# Altium footprint library Connector_Phoenix_MC_HighVoltage.PcbLib: 66 footprints (part 2 of 5)
Each footprint in its own frame and in the unit in brackets; x right, y up, seen from the top. Pads: shape width x height; smd on the part's side, far side on the other; paste and mask are expansions set on the pad; w line width, h text height; cw(c..) or ccw(c..) is an arc to the next point about the centre after c.
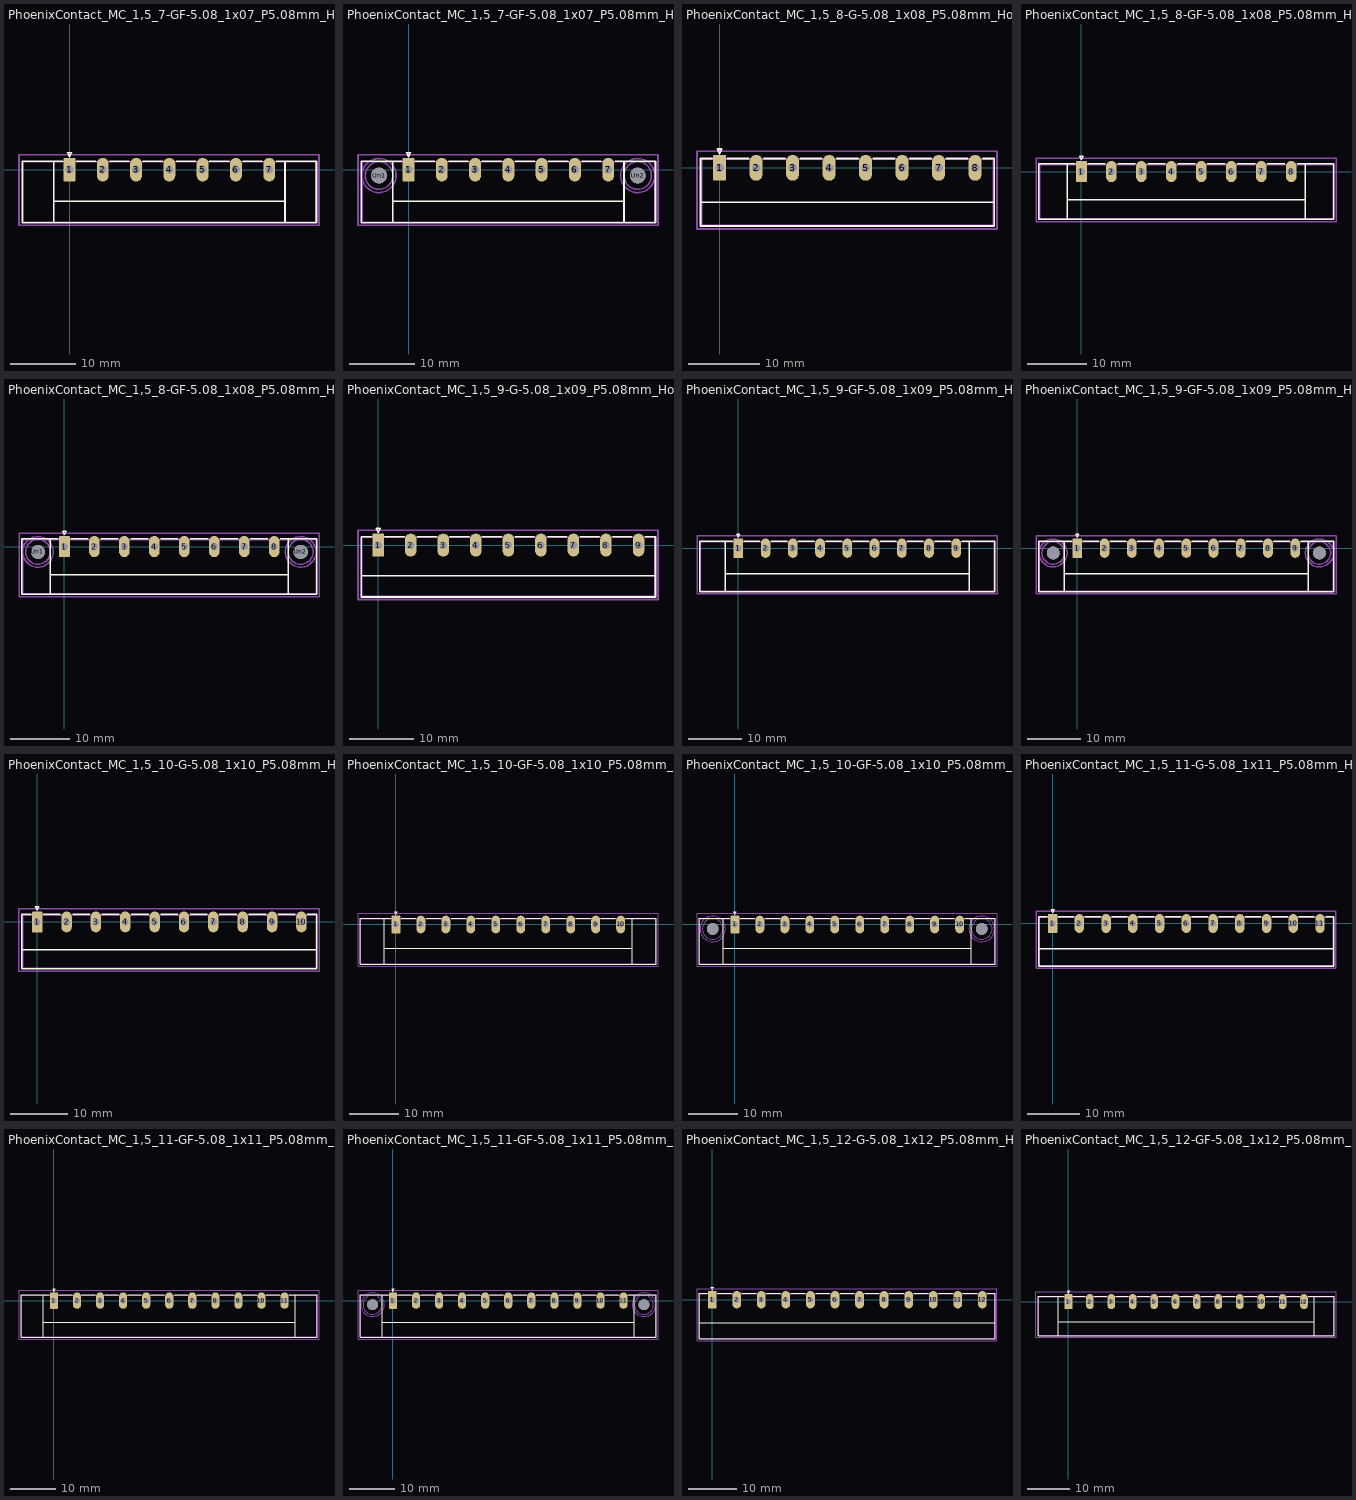
[diagram p1: the footprints below, top view; thin cyan lines are the x and y axes]

## PhoenixContact_MC_1,5_7-GF-5.08_1x07_P5.08mm_Horizontal_ThreadedFlange [mm]
pads (7):
  rrect14% 1.8x3.6 hole 1.2: 1(0,0)
  rrect100% 1.8x3.6 hole 1.2: 2(5.08,0) 3(10.16,0) 4(15.24,0) 5(20.32,0) 6(25.4,0) 7(30.48,0)
F.SilkS:
  lines w0.254: -2.41,-8.11 -2.41,1.31 ; -2.41,-4.8 32.89,-4.8 ; -1.05,1.31 -7.21,1.31 -7.21,-8.11 37.69,-8.11 37.69,1.31 31.53,1.31 ; 1.05,1.31 4.03,1.31 ; 6.13,1.31 9.11,1.31 ; 11.21,1.31 14.19,1.31 ; 16.29,1.31 19.27,1.31 ; 21.37,1.31 24.35,1.31 ; 26.45,1.31 29.43,1.31 ; 32.89,-8.11 32.89,1.31 ; -0.3,2.6 0,2 0.3,2.6 -0.3,2.6
Top Assembly:
  lines w0.254: -0.8,1.2 0,0 0.8,1.2 ; -7.1,-8 37.58,-8 37.58,1.2 -7.1,1.2 -7.1,-8
  text "'.Designator'" at 11.193,-0.34 h1
Top Courtyard:
  lines w0.254: -7.71,-8.5 38.08,-8.5 38.08,2.3 -7.71,2.3 -7.71,-8.5
Top Designator:
  text ".Designator" at 7.567,-3.458 h1.52

## PhoenixContact_MC_1,5_7-GF-5.08_1x07_P5.08mm_Horizontal_ThreadedFlange_MountHole [mm]
pads (9):
  rrect14% 1.8x3.6 hole 1.2: 1(0,0)
  rrect100% 1.8x3.6 hole 1.2: 2(5.08,0) 3(10.16,0) 4(15.24,0) 5(20.32,0) 6(25.4,0) 7(30.48,0)
  round 2.4 hole 2.4: Un1(-4.5,-0.9) Un2(34.98,-0.9)
F.SilkS:
  lines w0.254: -2.41,-8.11 -2.41,1.31 ; -2.41,-4.8 32.89,-4.8 ; -1.05,1.31 -7.21,1.31 -7.21,-8.11 37.69,-8.11 37.69,1.31 31.53,1.31 ; 1.05,1.31 4.03,1.31 ; 6.13,1.31 9.11,1.31 ; 11.21,1.31 14.19,1.31 ; 16.29,1.31 19.27,1.31 ; 21.37,1.31 24.35,1.31 ; 26.45,1.31 29.43,1.31 ; 32.89,-8.11 32.89,1.31 ; -0.3,2.6 0,2 0.3,2.6 -0.3,2.6
B.SilkS:
  circle w0.254: c34.98,-0.9 r2.21
  circle w0.254: c-4.5,-0.9 r2.21
Top Assembly:
  lines w0.254: -0.8,1.2 0,0 0.8,1.2 ; -7.1,-8 37.58,-8 37.58,1.2 -7.1,1.2 -7.1,-8
  text "'.Designator'" at 11.193,-0.34 h1
Bottom Assembly:
  circle w0.254: c34.98,-0.9 r2.1
  circle w0.254: c-4.5,-0.9 r2.1
Top Courtyard:
  lines w0.254: -7.71,-8.5 38.08,-8.5 38.08,2.3 -7.71,2.3 -7.71,-8.5
Bottom Courtyard:
  circle w0.254: c34.98,-0.9 r2.6
  circle w0.254: c-4.5,-0.9 r2.6
Top Designator:
  text ".Designator" at 7.567,-3.458 h1.52

## PhoenixContact_MC_1,5_8-G-5.08_1x08_P5.08mm_Horizontal [mm]
pads (8):
  rrect14% 1.8x3.6 hole 1.2: 1(0,0)
  rrect100% 1.8x3.6 hole 1.2: 2(5.08,0) 3(10.16,0) 4(15.24,0) 5(20.32,0) 6(25.4,0) 7(30.48,0) 8(35.56,0)
F.SilkS:
  lines w0.254: -2.65,-4.8 38.21,-4.8 ; -1.05,1.31 -2.65,1.31 -2.65,-8.11 38.21,-8.11 38.21,1.31 36.61,1.31 ; 1.05,1.31 4.03,1.31 ; 6.13,1.31 9.11,1.31 ; 11.21,1.31 14.19,1.31 ; 16.29,1.31 19.27,1.31 ; 21.37,1.31 24.35,1.31 ; 26.45,1.31 29.43,1.31 ; 31.53,1.31 34.51,1.31 ; -0.3,2.6 0,2 0.3,2.6 -0.3,2.6
Top Assembly:
  lines w0.254: -0.8,1.2 0,0 0.8,1.2 ; -2.54,-8 38.1,-8 38.1,1.2 -2.54,1.2 -2.54,-8
  text "'.Designator'" at 13.733,-0.34 h1
Top Courtyard:
  lines w0.254: -3.15,-8.5 38.6,-8.5 38.6,2.3 -3.15,2.3 -3.15,-8.5
Top Designator:
  text ".Designator" at 10.107,-3.458 h1.52

## PhoenixContact_MC_1,5_8-GF-5.08_1x08_P5.08mm_Horizontal_ThreadedFlange [mm]
pads (8):
  rrect14% 1.8x3.6 hole 1.2: 1(0,0)
  rrect100% 1.8x3.6 hole 1.2: 2(5.08,0) 3(10.16,0) 4(15.24,0) 5(20.32,0) 6(25.4,0) 7(30.48,0) 8(35.56,0)
F.SilkS:
  lines w0.254: -2.41,-8.11 -2.41,1.31 ; -2.41,-4.8 37.97,-4.8 ; -1.05,1.31 -7.21,1.31 -7.21,-8.11 42.77,-8.11 42.77,1.31 36.61,1.31 ; 1.05,1.31 4.03,1.31 ; 6.13,1.31 9.11,1.31 ; 11.21,1.31 14.19,1.31 ; 16.29,1.31 19.27,1.31 ; 21.37,1.31 24.35,1.31 ; 26.45,1.31 29.43,1.31 ; 31.53,1.31 34.51,1.31 ; 37.97,-8.11 37.97,1.31 ; -0.3,2.6 0,2 0.3,2.6 -0.3,2.6
Top Assembly:
  lines w0.254: -0.8,1.2 0,0 0.8,1.2 ; -7.1,-8 42.66,-8 42.66,1.2 -7.1,1.2 -7.1,-8
  text "'.Designator'" at 13.733,-0.34 h1
Top Courtyard:
  lines w0.254: -7.71,-8.5 43.16,-8.5 43.16,2.3 -7.71,2.3 -7.71,-8.5
Top Designator:
  text ".Designator" at 10.107,-3.458 h1.52

## PhoenixContact_MC_1,5_8-GF-5.08_1x08_P5.08mm_Horizontal_ThreadedFlange_MountHole [mm]
pads (10):
  rrect14% 1.8x3.6 hole 1.2: 1(0,0)
  rrect100% 1.8x3.6 hole 1.2: 2(5.08,0) 3(10.16,0) 4(15.24,0) 5(20.32,0) 6(25.4,0) 7(30.48,0) 8(35.56,0)
  round 2.4 hole 2.4: Un1(-4.5,-0.9) Un2(40.06,-0.9)
F.SilkS:
  lines w0.254: -2.41,-8.11 -2.41,1.31 ; -2.41,-4.8 37.97,-4.8 ; -1.05,1.31 -7.21,1.31 -7.21,-8.11 42.77,-8.11 42.77,1.31 36.61,1.31 ; 1.05,1.31 4.03,1.31 ; 6.13,1.31 9.11,1.31 ; 11.21,1.31 14.19,1.31 ; 16.29,1.31 19.27,1.31 ; 21.37,1.31 24.35,1.31 ; 26.45,1.31 29.43,1.31 ; 31.53,1.31 34.51,1.31 ; 37.97,-8.11 37.97,1.31 ; -0.3,2.6 0,2 0.3,2.6 -0.3,2.6
B.SilkS:
  circle w0.254: c40.06,-0.9 r2.21
  circle w0.254: c-4.5,-0.9 r2.21
Top Assembly:
  lines w0.254: -0.8,1.2 0,0 0.8,1.2 ; -7.1,-8 42.66,-8 42.66,1.2 -7.1,1.2 -7.1,-8
  text "'.Designator'" at 13.733,-0.34 h1
Bottom Assembly:
  circle w0.254: c40.06,-0.9 r2.1
  circle w0.254: c-4.5,-0.9 r2.1
Top Courtyard:
  lines w0.254: -7.71,-8.5 43.16,-8.5 43.16,2.3 -7.71,2.3 -7.71,-8.5
Bottom Courtyard:
  circle w0.254: c40.06,-0.9 r2.6
  circle w0.254: c-4.5,-0.9 r2.6
Top Designator:
  text ".Designator" at 10.107,-3.458 h1.52

## PhoenixContact_MC_1,5_9-G-5.08_1x09_P5.08mm_Horizontal [mm]
pads (9):
  rrect14% 1.8x3.6 hole 1.2: 1(0,0)
  rrect100% 1.8x3.6 hole 1.2: 2(5.08,0) 3(10.16,0) 4(15.24,0) 5(20.32,0) 6(25.4,0) 7(30.48,0) 8(35.56,0) 9(40.64,0)
F.SilkS:
  lines w0.254: -2.65,-4.8 43.29,-4.8 ; -1.05,1.31 -2.65,1.31 -2.65,-8.11 43.29,-8.11 43.29,1.31 41.69,1.31 ; 1.05,1.31 4.03,1.31 ; 6.13,1.31 9.11,1.31 ; 11.21,1.31 14.19,1.31 ; 16.29,1.31 19.27,1.31 ; 21.37,1.31 24.35,1.31 ; 26.45,1.31 29.43,1.31 ; 31.53,1.31 34.51,1.31 ; 36.61,1.31 39.59,1.31 ; -0.3,2.6 0,2 0.3,2.6 -0.3,2.6
Top Assembly:
  lines w0.254: -0.8,1.2 0,0 0.8,1.2 ; -2.54,-8 43.18,-8 43.18,1.2 -2.54,1.2 -2.54,-8
  text "'.Designator'" at 16.273,-0.34 h1
Top Courtyard:
  lines w0.254: -3.15,-8.5 43.68,-8.5 43.68,2.3 -3.15,2.3 -3.15,-8.5
Top Designator:
  text ".Designator" at 12.647,-3.458 h1.52

## PhoenixContact_MC_1,5_9-GF-5.08_1x09_P5.08mm_Horizontal_ThreadedFlange [mm]
pads (9):
  rrect14% 1.8x3.6 hole 1.2: 1(0,0)
  rrect100% 1.8x3.6 hole 1.2: 2(5.08,0) 3(10.16,0) 4(15.24,0) 5(20.32,0) 6(25.4,0) 7(30.48,0) 8(35.56,0) 9(40.64,0)
F.SilkS:
  lines w0.254: -2.41,-8.11 -2.41,1.31 ; -2.41,-4.8 43.05,-4.8 ; -1.05,1.31 -7.21,1.31 -7.21,-8.11 47.85,-8.11 47.85,1.31 41.69,1.31 ; 1.05,1.31 4.03,1.31 ; 6.13,1.31 9.11,1.31 ; 11.21,1.31 14.19,1.31 ; 16.29,1.31 19.27,1.31 ; 21.37,1.31 24.35,1.31 ; 26.45,1.31 29.43,1.31 ; 31.53,1.31 34.51,1.31 ; 36.61,1.31 39.59,1.31 ; 43.05,-8.11 43.05,1.31 ; -0.3,2.6 0,2 0.3,2.6 -0.3,2.6
Top Assembly:
  lines w0.254: -0.8,1.2 0,0 0.8,1.2 ; -7.1,-8 47.74,-8 47.74,1.2 -7.1,1.2 -7.1,-8
  text "'.Designator'" at 16.273,-0.34 h1
Top Courtyard:
  lines w0.254: -7.71,-8.5 48.24,-8.5 48.24,2.3 -7.71,2.3 -7.71,-8.5
Top Designator:
  text ".Designator" at 12.647,-3.458 h1.52

## PhoenixContact_MC_1,5_9-GF-5.08_1x09_P5.08mm_Horizontal_ThreadedFlange_MountHole [mm]
pads (11):
  rrect14% 1.8x3.6 hole 1.2: 1(0,0)
  rrect100% 1.8x3.6 hole 1.2: 2(5.08,0) 3(10.16,0) 4(15.24,0) 5(20.32,0) 6(25.4,0) 7(30.48,0) 8(35.56,0) 9(40.64,0)
  round 2.4 hole 2.4: Un1(-4.5,-0.9) Un2(45.14,-0.9)
F.SilkS:
  lines w0.254: -2.41,-8.11 -2.41,1.31 ; -2.41,-4.8 43.05,-4.8 ; -1.05,1.31 -7.21,1.31 -7.21,-8.11 47.85,-8.11 47.85,1.31 41.69,1.31 ; 1.05,1.31 4.03,1.31 ; 6.13,1.31 9.11,1.31 ; 11.21,1.31 14.19,1.31 ; 16.29,1.31 19.27,1.31 ; 21.37,1.31 24.35,1.31 ; 26.45,1.31 29.43,1.31 ; 31.53,1.31 34.51,1.31 ; 36.61,1.31 39.59,1.31 ; 43.05,-8.11 43.05,1.31 ; -0.3,2.6 0,2 0.3,2.6 -0.3,2.6
B.SilkS:
  circle w0.254: c45.14,-0.9 r2.21
  circle w0.254: c-4.5,-0.9 r2.21
Top Assembly:
  lines w0.254: -0.8,1.2 0,0 0.8,1.2 ; -7.1,-8 47.74,-8 47.74,1.2 -7.1,1.2 -7.1,-8
  text "'.Designator'" at 16.273,-0.34 h1
Bottom Assembly:
  circle w0.254: c45.14,-0.9 r2.1
  circle w0.254: c-4.5,-0.9 r2.1
Top Courtyard:
  lines w0.254: -7.71,-8.5 48.24,-8.5 48.24,2.3 -7.71,2.3 -7.71,-8.5
Bottom Courtyard:
  circle w0.254: c45.14,-0.9 r2.6
  circle w0.254: c-4.5,-0.9 r2.6
Top Designator:
  text ".Designator" at 12.647,-3.458 h1.52

## PhoenixContact_MC_1,5_10-G-5.08_1x10_P5.08mm_Horizontal [mm]
pads (10):
  rrect14% 1.8x3.6 hole 1.2: 1(0,0)
  rrect100% 1.8x3.6 hole 1.2: 2(5.08,0) 3(10.16,0) 4(15.24,0) 5(20.32,0) 6(25.4,0) 7(30.48,0) 8(35.56,0) 9(40.64,0) 10(45.72,0)
F.SilkS:
  lines w0.254: -2.65,-4.8 48.37,-4.8 ; -1.05,1.31 -2.65,1.31 -2.65,-8.11 48.37,-8.11 48.37,1.31 46.77,1.31 ; 1.05,1.31 4.03,1.31 ; 6.13,1.31 9.11,1.31 ; 11.21,1.31 14.19,1.31 ; 16.29,1.31 19.27,1.31 ; 21.37,1.31 24.35,1.31 ; 26.45,1.31 29.43,1.31 ; 31.53,1.31 34.51,1.31 ; 36.61,1.31 39.59,1.31 ; 41.69,1.31 44.67,1.31 ; -0.3,2.6 0,2 0.3,2.6 -0.3,2.6
Top Assembly:
  lines w0.254: -0.8,1.2 0,0 0.8,1.2 ; -2.54,-8 48.26,-8 48.26,1.2 -2.54,1.2 -2.54,-8
  text "'.Designator'" at 18.813,-0.34 h1
Top Courtyard:
  lines w0.254: -3.15,-8.5 48.76,-8.5 48.76,2.3 -3.15,2.3 -3.15,-8.5
Top Designator:
  text ".Designator" at 15.187,-3.458 h1.52

## PhoenixContact_MC_1,5_10-GF-5.08_1x10_P5.08mm_Horizontal_ThreadedFlange [mm]
pads (10):
  rrect14% 1.8x3.6 hole 1.2: 1(0,0)
  rrect100% 1.8x3.6 hole 1.2: 2(5.08,0) 3(10.16,0) 4(15.24,0) 5(20.32,0) 6(25.4,0) 7(30.48,0) 8(35.56,0) 9(40.64,0) 10(45.72,0)
F.SilkS:
  lines w0.254: -2.41,-8.11 -2.41,1.31 ; -2.41,-4.8 48.13,-4.8 ; -1.05,1.31 -7.21,1.31 -7.21,-8.11 52.93,-8.11 52.93,1.31 46.77,1.31 ; 1.05,1.31 4.03,1.31 ; 6.13,1.31 9.11,1.31 ; 11.21,1.31 14.19,1.31 ; 16.29,1.31 19.27,1.31 ; 21.37,1.31 24.35,1.31 ; 26.45,1.31 29.43,1.31 ; 31.53,1.31 34.51,1.31 ; 36.61,1.31 39.59,1.31 ; 41.69,1.31 44.67,1.31 ; 48.13,-8.11 48.13,1.31 ; -0.3,2.6 0,2 0.3,2.6 -0.3,2.6
Top Assembly:
  lines w0.254: -0.8,1.2 0,0 0.8,1.2 ; -7.1,-8 52.82,-8 52.82,1.2 -7.1,1.2 -7.1,-8
  text "'.Designator'" at 18.813,-0.34 h1
Top Courtyard:
  lines w0.254: -7.71,-8.5 53.32,-8.5 53.32,2.3 -7.71,2.3 -7.71,-8.5
Top Designator:
  text ".Designator" at 15.187,-3.458 h1.52

## PhoenixContact_MC_1,5_10-GF-5.08_1x10_P5.08mm_Horizontal_ThreadedFlange_MountHole [mm]
pads (12):
  rrect14% 1.8x3.6 hole 1.2: 1(0,0)
  rrect100% 1.8x3.6 hole 1.2: 2(5.08,0) 3(10.16,0) 4(15.24,0) 5(20.32,0) 6(25.4,0) 7(30.48,0) 8(35.56,0) 9(40.64,0) 10(45.72,0)
  round 2.4 hole 2.4: Un1(-4.5,-0.9) Un2(50.22,-0.9)
F.SilkS:
  lines w0.254: -2.41,-8.11 -2.41,1.31 ; -2.41,-4.8 48.13,-4.8 ; -1.05,1.31 -7.21,1.31 -7.21,-8.11 52.93,-8.11 52.93,1.31 46.77,1.31 ; 1.05,1.31 4.03,1.31 ; 6.13,1.31 9.11,1.31 ; 11.21,1.31 14.19,1.31 ; 16.29,1.31 19.27,1.31 ; 21.37,1.31 24.35,1.31 ; 26.45,1.31 29.43,1.31 ; 31.53,1.31 34.51,1.31 ; 36.61,1.31 39.59,1.31 ; 41.69,1.31 44.67,1.31 ; 48.13,-8.11 48.13,1.31 ; -0.3,2.6 0,2 0.3,2.6 -0.3,2.6
B.SilkS:
  circle w0.254: c50.22,-0.9 r2.21
  circle w0.254: c-4.5,-0.9 r2.21
Top Assembly:
  lines w0.254: -0.8,1.2 0,0 0.8,1.2 ; -7.1,-8 52.82,-8 52.82,1.2 -7.1,1.2 -7.1,-8
  text "'.Designator'" at 18.813,-0.34 h1
Bottom Assembly:
  circle w0.254: c50.22,-0.9 r2.1
  circle w0.254: c-4.5,-0.9 r2.1
Top Courtyard:
  lines w0.254: -7.71,-8.5 53.32,-8.5 53.32,2.3 -7.71,2.3 -7.71,-8.5
Bottom Courtyard:
  circle w0.254: c50.22,-0.9 r2.6
  circle w0.254: c-4.5,-0.9 r2.6
Top Designator:
  text ".Designator" at 15.187,-3.458 h1.52

## PhoenixContact_MC_1,5_11-G-5.08_1x11_P5.08mm_Horizontal [mm]
pads (11):
  rrect14% 1.8x3.6 hole 1.2: 1(0,0)
  rrect100% 1.8x3.6 hole 1.2: 2(5.08,0) 3(10.16,0) 4(15.24,0) 5(20.32,0) 6(25.4,0) 7(30.48,0) 8(35.56,0) 9(40.64,0) 10(45.72,0) 11(50.8,0)
F.SilkS:
  lines w0.254: -2.65,-4.8 53.45,-4.8 ; -1.05,1.31 -2.65,1.31 -2.65,-8.11 53.45,-8.11 53.45,1.31 51.85,1.31 ; 1.05,1.31 4.03,1.31 ; 6.13,1.31 9.11,1.31 ; 11.21,1.31 14.19,1.31 ; 16.29,1.31 19.27,1.31 ; 21.37,1.31 24.35,1.31 ; 26.45,1.31 29.43,1.31 ; 31.53,1.31 34.51,1.31 ; 36.61,1.31 39.59,1.31 ; 41.69,1.31 44.67,1.31 ; 46.77,1.31 49.75,1.31 ; -0.3,2.6 0,2 0.3,2.6 -0.3,2.6
Top Assembly:
  lines w0.254: -0.8,1.2 0,0 0.8,1.2 ; -2.54,-8 53.34,-8 53.34,1.2 -2.54,1.2 -2.54,-8
  text "'.Designator'" at 21.353,-0.34 h1
Top Courtyard:
  lines w0.254: -3.15,-8.5 53.84,-8.5 53.84,2.3 -3.15,2.3 -3.15,-8.5
Top Designator:
  text ".Designator" at 17.727,-3.458 h1.52

## PhoenixContact_MC_1,5_11-GF-5.08_1x11_P5.08mm_Horizontal_ThreadedFlange [mm]
pads (11):
  rrect14% 1.8x3.6 hole 1.2: 1(0,0)
  rrect100% 1.8x3.6 hole 1.2: 2(5.08,0) 3(10.16,0) 4(15.24,0) 5(20.32,0) 6(25.4,0) 7(30.48,0) 8(35.56,0) 9(40.64,0) 10(45.72,0) 11(50.8,0)
F.SilkS:
  lines w0.254: -2.41,-8.11 -2.41,1.31 ; -2.41,-4.8 53.21,-4.8 ; -1.05,1.31 -7.21,1.31 -7.21,-8.11 58.01,-8.11 58.01,1.31 51.85,1.31 ; 1.05,1.31 4.03,1.31 ; 6.13,1.31 9.11,1.31 ; 11.21,1.31 14.19,1.31 ; 16.29,1.31 19.27,1.31 ; 21.37,1.31 24.35,1.31 ; 26.45,1.31 29.43,1.31 ; 31.53,1.31 34.51,1.31 ; 36.61,1.31 39.59,1.31 ; 41.69,1.31 44.67,1.31 ; 46.77,1.31 49.75,1.31 ; 53.21,-8.11 53.21,1.31 ; -0.3,2.6 0,2 0.3,2.6 -0.3,2.6
Top Assembly:
  lines w0.254: -0.8,1.2 0,0 0.8,1.2 ; -7.1,-8 57.9,-8 57.9,1.2 -7.1,1.2 -7.1,-8
  text "'.Designator'" at 21.353,-0.34 h1
Top Courtyard:
  lines w0.254: -7.71,-8.5 58.4,-8.5 58.4,2.3 -7.71,2.3 -7.71,-8.5
Top Designator:
  text ".Designator" at 17.727,-3.458 h1.52

## PhoenixContact_MC_1,5_11-GF-5.08_1x11_P5.08mm_Horizontal_ThreadedFlange_MountHole [mm]
pads (13):
  rrect14% 1.8x3.6 hole 1.2: 1(0,0)
  rrect100% 1.8x3.6 hole 1.2: 2(5.08,0) 3(10.16,0) 4(15.24,0) 5(20.32,0) 6(25.4,0) 7(30.48,0) 8(35.56,0) 9(40.64,0) 10(45.72,0) 11(50.8,0)
  round 2.4 hole 2.4: Un1(-4.5,-0.9) Un2(55.3,-0.9)
F.SilkS:
  lines w0.254: -2.41,-8.11 -2.41,1.31 ; -2.41,-4.8 53.21,-4.8 ; -1.05,1.31 -7.21,1.31 -7.21,-8.11 58.01,-8.11 58.01,1.31 51.85,1.31 ; 1.05,1.31 4.03,1.31 ; 6.13,1.31 9.11,1.31 ; 11.21,1.31 14.19,1.31 ; 16.29,1.31 19.27,1.31 ; 21.37,1.31 24.35,1.31 ; 26.45,1.31 29.43,1.31 ; 31.53,1.31 34.51,1.31 ; 36.61,1.31 39.59,1.31 ; 41.69,1.31 44.67,1.31 ; 46.77,1.31 49.75,1.31 ; 53.21,-8.11 53.21,1.31 ; -0.3,2.6 0,2 0.3,2.6 -0.3,2.6
B.SilkS:
  circle w0.254: c55.3,-0.9 r2.21
  circle w0.254: c-4.5,-0.9 r2.21
Top Assembly:
  lines w0.254: -0.8,1.2 0,0 0.8,1.2 ; -7.1,-8 57.9,-8 57.9,1.2 -7.1,1.2 -7.1,-8
  text "'.Designator'" at 21.353,-0.34 h1
Bottom Assembly:
  circle w0.254: c55.3,-0.9 r2.1
  circle w0.254: c-4.5,-0.9 r2.1
Top Courtyard:
  lines w0.254: -7.71,-8.5 58.4,-8.5 58.4,2.3 -7.71,2.3 -7.71,-8.5
Bottom Courtyard:
  circle w0.254: c55.3,-0.9 r2.6
  circle w0.254: c-4.5,-0.9 r2.6
Top Designator:
  text ".Designator" at 17.727,-3.458 h1.52

## PhoenixContact_MC_1,5_12-G-5.08_1x12_P5.08mm_Horizontal [mm]
pads (12):
  rrect14% 1.8x3.6 hole 1.2: 1(0,0)
  rrect100% 1.8x3.6 hole 1.2: 2(5.08,0) 3(10.16,0) 4(15.24,0) 5(20.32,0) 6(25.4,0) 7(30.48,0) 8(35.56,0) 9(40.64,0) 10(45.72,0) 11(50.8,0) 12(55.88,0)
F.SilkS:
  lines w0.254: -2.65,-4.8 58.53,-4.8 ; -1.05,1.31 -2.65,1.31 -2.65,-8.11 58.53,-8.11 58.53,1.31 56.93,1.31 ; 1.05,1.31 4.03,1.31 ; 6.13,1.31 9.11,1.31 ; 11.21,1.31 14.19,1.31 ; 16.29,1.31 19.27,1.31 ; 21.37,1.31 24.35,1.31 ; 26.45,1.31 29.43,1.31 ; 31.53,1.31 34.51,1.31 ; 36.61,1.31 39.59,1.31 ; 41.69,1.31 44.67,1.31 ; 46.77,1.31 49.75,1.31 ; 51.85,1.31 54.83,1.31 ; -0.3,2.6 0,2 0.3,2.6 -0.3,2.6
Top Assembly:
  lines w0.254: -0.8,1.2 0,0 0.8,1.2 ; -2.54,-8 58.42,-8 58.42,1.2 -2.54,1.2 -2.54,-8
  text "'.Designator'" at 23.893,-0.34 h1
Top Courtyard:
  lines w0.254: -3.15,-8.5 58.92,-8.5 58.92,2.3 -3.15,2.3 -3.15,-8.5
Top Designator:
  text ".Designator" at 20.267,-3.458 h1.52

## PhoenixContact_MC_1,5_12-GF-5.08_1x12_P5.08mm_Horizontal_ThreadedFlange [mm]
pads (12):
  rrect14% 1.8x3.6 hole 1.2: 1(0,0)
  rrect100% 1.8x3.6 hole 1.2: 2(5.08,0) 3(10.16,0) 4(15.24,0) 5(20.32,0) 6(25.4,0) 7(30.48,0) 8(35.56,0) 9(40.64,0) 10(45.72,0) 11(50.8,0) 12(55.88,0)
F.SilkS:
  lines w0.254: -2.41,-8.11 -2.41,1.31 ; -2.41,-4.8 58.29,-4.8 ; -1.05,1.31 -7.21,1.31 -7.21,-8.11 63.09,-8.11 63.09,1.31 56.93,1.31 ; 1.05,1.31 4.03,1.31 ; 6.13,1.31 9.11,1.31 ; 11.21,1.31 14.19,1.31 ; 16.29,1.31 19.27,1.31 ; 21.37,1.31 24.35,1.31 ; 26.45,1.31 29.43,1.31 ; 31.53,1.31 34.51,1.31 ; 36.61,1.31 39.59,1.31 ; 41.69,1.31 44.67,1.31 ; 46.77,1.31 49.75,1.31 ; 51.85,1.31 54.83,1.31 ; 58.29,-8.11 58.29,1.31 ; -0.3,2.6 0,2 0.3,2.6 -0.3,2.6
Top Assembly:
  lines w0.254: -0.8,1.2 0,0 0.8,1.2 ; -7.1,-8 62.98,-8 62.98,1.2 -7.1,1.2 -7.1,-8
  text "'.Designator'" at 23.893,-0.34 h1
Top Courtyard:
  lines w0.254: -7.71,-8.5 63.48,-8.5 63.48,2.3 -7.71,2.3 -7.71,-8.5
Top Designator:
  text ".Designator" at 20.267,-3.458 h1.52